# Altium schematic symbol library SMA-EDGE.Schlib: 1 symbol
Pins are listed as number, name and electrical type; pins without a type are passive.

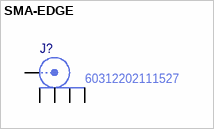
[diagram p0: symbol SMA-EDGE]

## SMA-EDGE
designator J?, comment Manufacturer Part Number: 60312202111527  (hidden comment: SMA)
SMA connector
pins: 1 X, 2 Y, 3 Y, 4 Y, 5 Y